# EAGLE library part 218-04 (library switch-dil)
DIP SWITCH
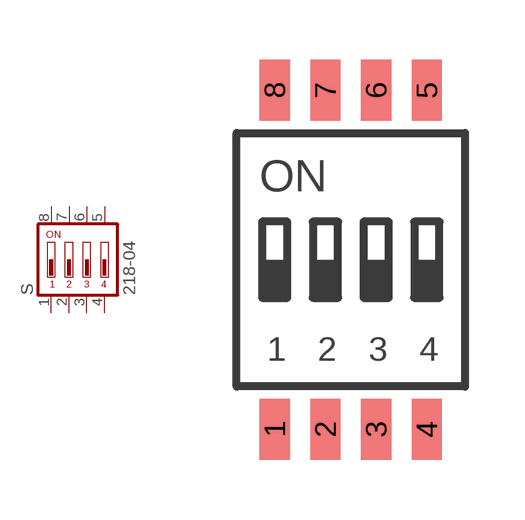
[diagram p65: symbol with the pads of 218-04; footprint 218-04]

Designator prefix S

## 218-04  [218-04]
1  1  pas
2  2  pas
3  3  pas
4  4  pas
5  5  pas
6  6  pas
7  7  pas
8  8  pas

## Footprint 218-04 (pad centres in mm)
CTS SERIES 218LP - Gull Wing Terminal
smd 0.762 x 1.524: 1 -1.905,-4.245; 2 -0.635,-4.245; 3 0.635,-4.245; 4 1.905,-4.245; 5 1.905,4.245; 6 0.635,4.245; 7 -0.635,4.245; 8 -1.905,4.245